# EAGLE library part LCMXO2-1200 (library ELL-i-DigitalIC)
MachXO2-1200 in csBGA132 or TQFP144 package. Lattice MachXO2-series FPGA in a 132 ball chip size BGA or 144 lead TQFP package. Datasheet <http://www.latticesemi.com/~/media/Documents/DataSheets/MachXO23/MachXO2FamilyDataSheet.pdf> (DS1035) .
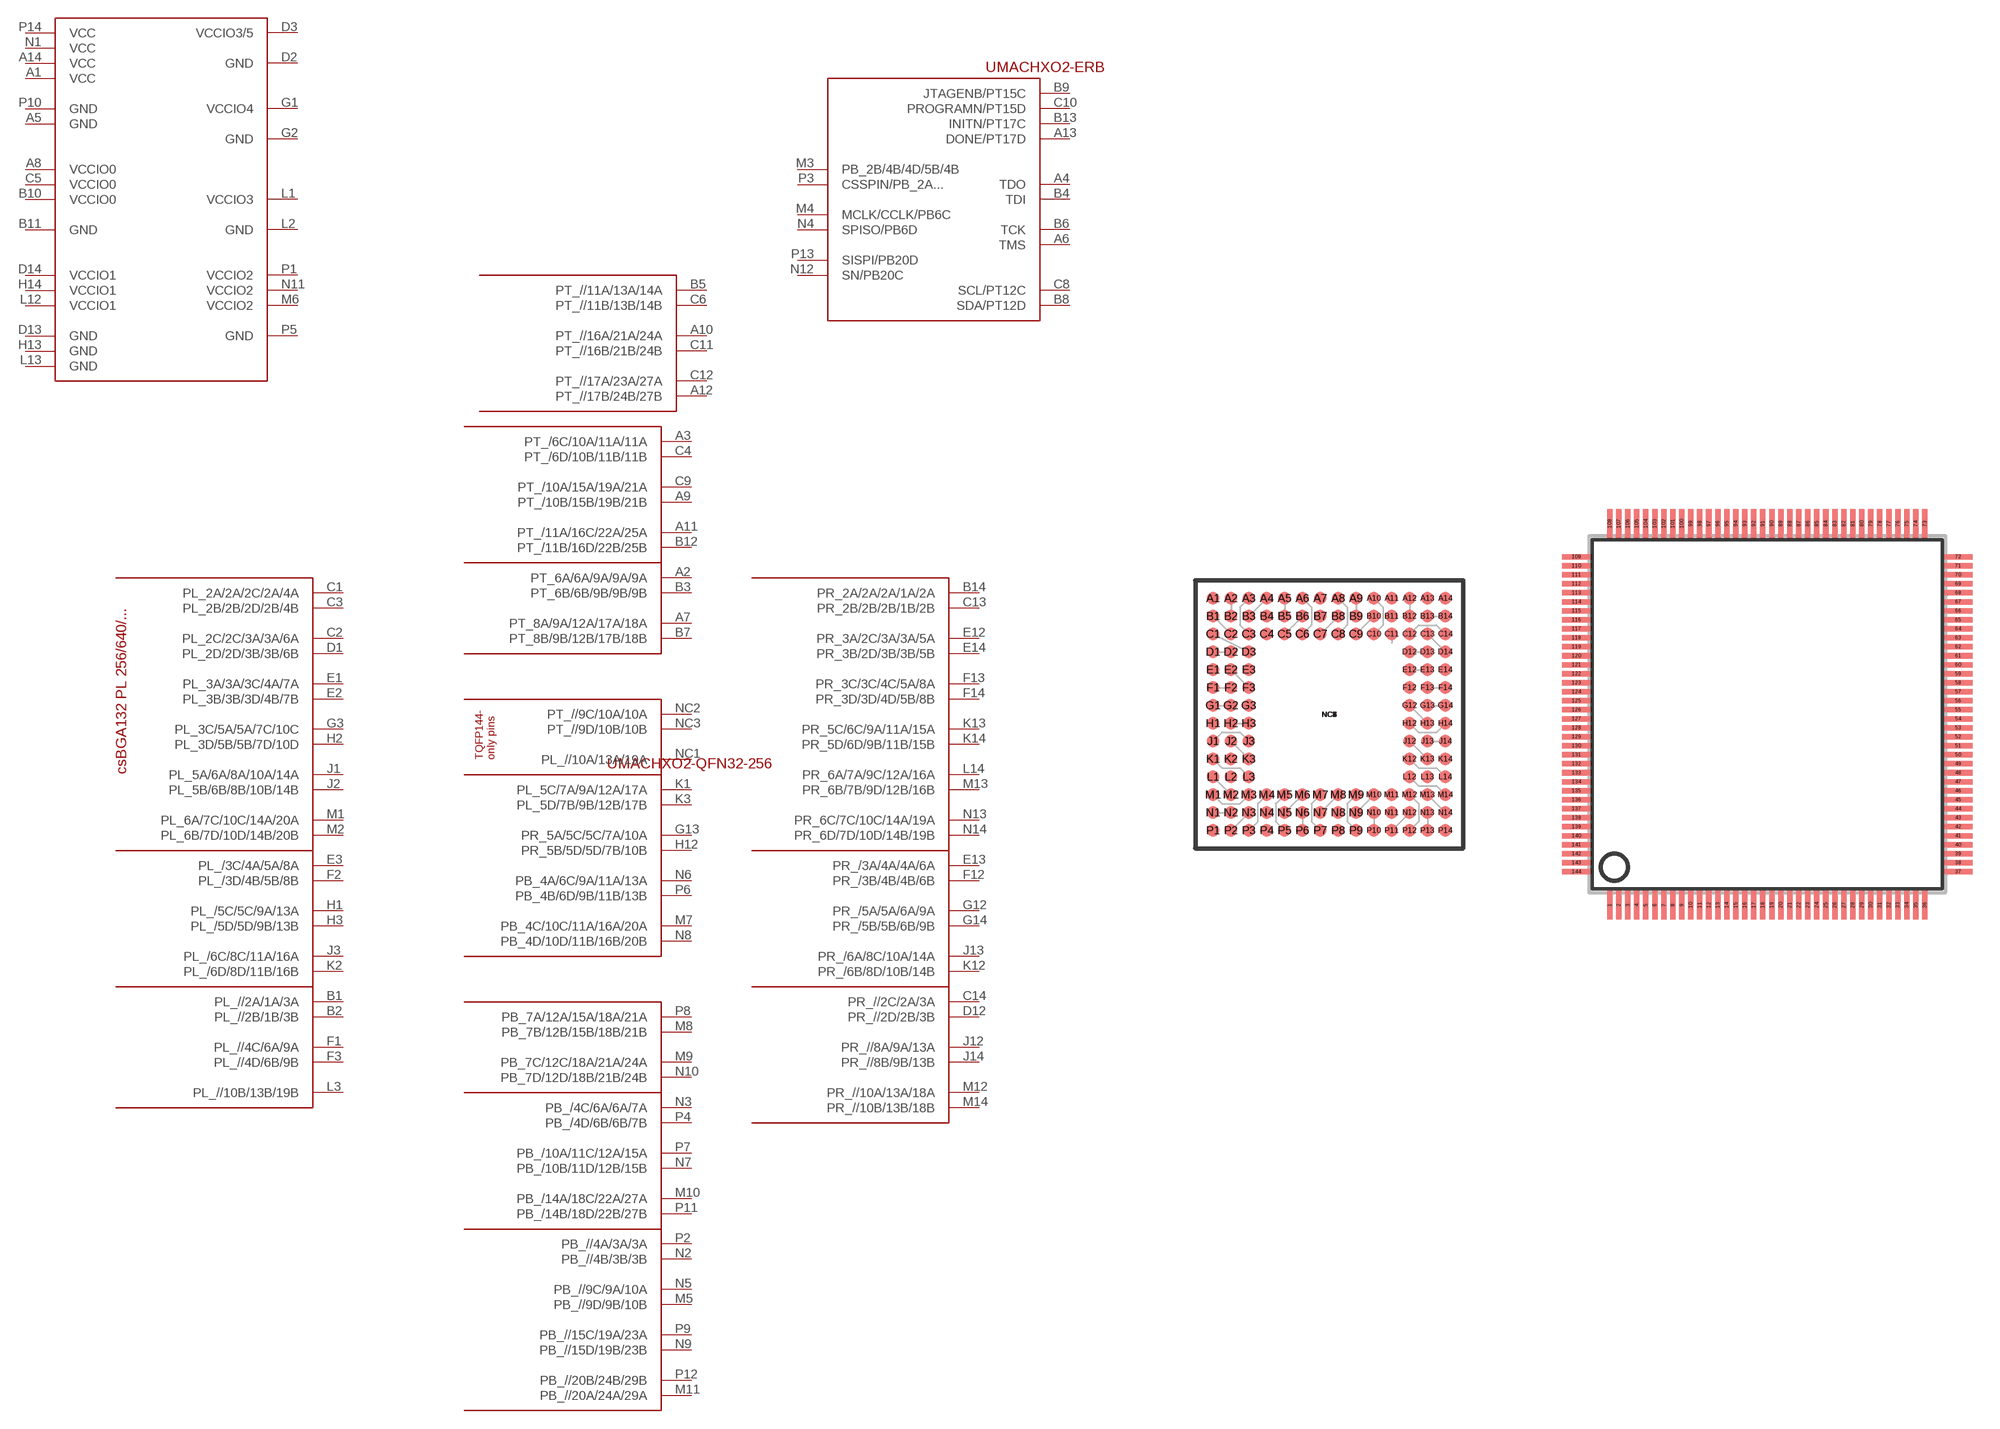
[diagram p6: symbol with the pads of CSBGA132-MACHXO2; footprints CSBGA132-MACHXO2, TQFP144]

Designator prefix U; gates MACHXO2-CSBGA132-PWR=MACHXO2-CSBGA132-PWR MACHXO2-ERB=MACHXO2-ERB MACHXO2-QFN32-256=MACHXO2-QFN32-256 MACHXO2-CSBGA132-256-TOP=MACHXO2-CSBGA132-256-TOP MACHXO2-CSBGA132-256-LEFT=MACHXO2-CSBGA132-256-LEFT MACHXO2-CSBGA132-256-RIGHT=MACHXO2-CSBGA132-256-RIGHT MACHXO2-CSBGA132-256-BOTTOM=MACHXO2-CSBGA132-256-BOTTOM MACHXO2-CSBGA132-640-TOP=MACHXO2-CSBGA132-640-TOP MACHXO2-CSBGA132-640-LEFT=MACHXO2-CSBGA132-640-LEFT MACHXO2-CSBGA132-640-RIGHT=MACHXO2-CSBGA132-640-RIGHT MACHXO2-CSBGA132-640-BOTTOM=MACHXO2-CSBGA132-640-BOTTOM MACHXO2-CSBGA132-1200-TOP=MACHXO2-CSBGA132-1200-TOP MACHXO2-CSBGA132-1200-LEFT=MACHXO2-CSBGA132-1200-LEFT MACHXO2-CSBGA132-1200-RIGHT=MACHXO2-CSBGA132-1200-RIGHT MACHXO2-CSBGA132-1200-BOTTOM=MACHXO2-CSBGA132-1200-BOTTOM MACHXO2-TQFP144=MACHXO2-TQFP144-1200

## LCMXO2-1200HC-4MG132, LCMXO2-1200HC-5MG132, LCMXO2-1200HC-6MG132, LCMXO2-1200HE-4MG132, LCMXO2-1200HE-5MG132, LCMXO2-1200HE-6MG132, LCMXO2-1200ZE-1MG132, LCMXO2-1200ZE-2MG132, LCMXO2-1200ZE-3MG132  [CSBGA132-MACHXO2]
A1  MACHXO2-CSBGA132-PWR:VCC
A2  MACHXO2-CSBGA132-256-TOP:PT_6A/6A/9A/9A/9A
A3  MACHXO2-CSBGA132-640-TOP:PT_/6C/10A/11A/11A
A4  MACHXO2-ERB:TDO
A5  MACHXO2-CSBGA132-PWR:GND
A6  MACHXO2-ERB:TMS
A7  MACHXO2-CSBGA132-256-TOP:PT_8A/9A/12A/17A/18A
A8  MACHXO2-CSBGA132-PWR:VCCIO0
A9  MACHXO2-CSBGA132-640-TOP:PT_/10B/15B/19B/21B
A10  MACHXO2-CSBGA132-1200-TOP:PT_//16A/21A/24A
A11  MACHXO2-CSBGA132-640-TOP:PT_/11A/16C/22A/25A
A12  MACHXO2-CSBGA132-1200-TOP:PT_//17B/24B/27B
A13  MACHXO2-ERB:DONE/PT17D
A14  MACHXO2-CSBGA132-PWR:VCC
B1  MACHXO2-CSBGA132-1200-LEFT:PL_//2A/1A/3A
B2  MACHXO2-CSBGA132-1200-LEFT:PL_//2B/1B/3B
B3  MACHXO2-CSBGA132-256-TOP:PT_6B/6B/9B/9B/9B
B4  MACHXO2-ERB:TDI
B5  MACHXO2-CSBGA132-1200-TOP:PT_//11A/13A/14A
B6  MACHXO2-ERB:TCK
B7  MACHXO2-CSBGA132-256-TOP:PT_8B/9B/12B/17B/18B
B8  MACHXO2-ERB:SDA/PT12D
B9  MACHXO2-ERB:JTAGENB/PT15C
B10  MACHXO2-CSBGA132-PWR:VCCIO0
B11  MACHXO2-CSBGA132-PWR:GND
B12  MACHXO2-CSBGA132-640-TOP:PT_/11B/16D/22B/25B
B13  MACHXO2-ERB:INITN/PT17C
B14  MACHXO2-CSBGA132-256-RIGHT:PR_2A/2A/2A/1A/2A
C1  MACHXO2-CSBGA132-256-LEFT:PL_2A/2A/2C/2A/4A
C2  MACHXO2-CSBGA132-256-LEFT:PL_2C/2C/3A/3A/6A
C3  MACHXO2-CSBGA132-256-LEFT:PL_2B/2B/2D/2B/4B
C4  MACHXO2-CSBGA132-640-TOP:PT_/6D/10B/11B/11B
C5  MACHXO2-CSBGA132-PWR:VCCIO0
C6  MACHXO2-CSBGA132-1200-TOP:PT_//11B/13B/14B
C8  MACHXO2-ERB:SCL/PT12C
C9  MACHXO2-CSBGA132-640-TOP:PT_/10A/15A/19A/21A
C10  MACHXO2-ERB:PROGRAMN/PT15D
C11  MACHXO2-CSBGA132-1200-TOP:PT_//16B/21B/24B
C12  MACHXO2-CSBGA132-1200-TOP:PT_//17A/23A/27A
C13  MACHXO2-CSBGA132-256-RIGHT:PR_2B/2B/2B/1B/2B
C14  MACHXO2-CSBGA132-1200-RIGHT:PR_//2C/2A/3A
D1  MACHXO2-CSBGA132-256-LEFT:PL_2D/2D/3B/3B/6B
D2  MACHXO2-CSBGA132-PWR:GND
D3  MACHXO2-CSBGA132-PWR:VCCIO3/5
D12  MACHXO2-CSBGA132-1200-RIGHT:PR_//2D/2B/3B
D13  MACHXO2-CSBGA132-PWR:GND
D14  MACHXO2-CSBGA132-PWR:VCCIO1
E1  MACHXO2-CSBGA132-256-LEFT:PL_3A/3A/3C/4A/7A
E2  MACHXO2-CSBGA132-256-LEFT:PL_3B/3B/3D/4B/7B
E3  MACHXO2-CSBGA132-640-LEFT:PL_/3C/4A/5A/8A
E12  MACHXO2-CSBGA132-256-RIGHT:PR_3A/2C/3A/3A/5A
E13  MACHXO2-CSBGA132-640-RIGHT:PR_/3A/4A/4A/6A
E14  MACHXO2-CSBGA132-256-RIGHT:PR_3B/2D/3B/3B/5B
F1  MACHXO2-CSBGA132-1200-LEFT:PL_//4C/6A/9A
F2  MACHXO2-CSBGA132-640-LEFT:PL_/3D/4B/5B/8B
F3  MACHXO2-CSBGA132-1200-LEFT:PL_//4D/6B/9B
F12  MACHXO2-CSBGA132-640-RIGHT:PR_/3B/4B/4B/6B
F13  MACHXO2-CSBGA132-256-RIGHT:PR_3C/3C/4C/5A/8A
F14  MACHXO2-CSBGA132-256-RIGHT:PR_3D/3D/4D/5B/8B
G1  MACHXO2-CSBGA132-PWR:VCCIO4
G2  MACHXO2-CSBGA132-PWR:GND
G3  MACHXO2-CSBGA132-256-LEFT:PL_3C/5A/5A/7C/10C
G12  MACHXO2-CSBGA132-640-RIGHT:PR_/5A/5A/6A/9A
G13  MACHXO2-QFN32-256:PR_5A/5C/5C/7A/10A
G14  MACHXO2-CSBGA132-640-RIGHT:PR_/5B/5B/6B/9B
H1  MACHXO2-CSBGA132-640-LEFT:PL_/5C/5C/9A/13A
H2  MACHXO2-CSBGA132-256-LEFT:PL_3D/5B/5B/7D/10D
H3  MACHXO2-CSBGA132-640-LEFT:PL_/5D/5D/9B/13B
H12  MACHXO2-QFN32-256:PR_5B/5D/5D/7B/10B
H13  MACHXO2-CSBGA132-PWR:GND
H14  MACHXO2-CSBGA132-PWR:VCCIO1
J1  MACHXO2-CSBGA132-256-LEFT:PL_5A/6A/8A/10A/14A
J2  MACHXO2-CSBGA132-256-LEFT:PL_5B/6B/8B/10B/14B
J3  MACHXO2-CSBGA132-640-LEFT:PL_/6C/8C/11A/16A
J12  MACHXO2-CSBGA132-1200-RIGHT:PR_//8A/9A/13A
J13  MACHXO2-CSBGA132-640-RIGHT:PR_/6A/8C/10A/14A
J14  MACHXO2-CSBGA132-1200-RIGHT:PR_//8B/9B/13B
K1  MACHXO2-QFN32-256:PL_5C/7A/9A/12A/17A
K2  MACHXO2-CSBGA132-640-LEFT:PL_/6D/8D/11B/16B
K3  MACHXO2-QFN32-256:PL_5D/7B/9B/12B/17B
K12  MACHXO2-CSBGA132-640-RIGHT:PR_/6B/8D/10B/14B
K13  MACHXO2-CSBGA132-256-RIGHT:PR_5C/6C/9A/11A/15A
K14  MACHXO2-CSBGA132-256-RIGHT:PR_5D/6D/9B/11B/15B
L1  MACHXO2-CSBGA132-PWR:VCCIO3
L2  MACHXO2-CSBGA132-PWR:GND
L3  MACHXO2-CSBGA132-1200-LEFT:PL_//10B/13B/19B
L12  MACHXO2-CSBGA132-PWR:VCCIO1
L13  MACHXO2-CSBGA132-PWR:GND
L14  MACHXO2-CSBGA132-256-RIGHT:PR_6A/7A/9C/12A/16A
M1  MACHXO2-CSBGA132-256-LEFT:PL_6A/7C/10C/14A/20A
M2  MACHXO2-CSBGA132-256-LEFT:PL_6B/7D/10D/14B/20B
M3  MACHXO2-ERB:PB_2B/4B/4D/5B/4B
M4  MACHXO2-ERB:MCLK/CCLK/PB6C
M5  MACHXO2-CSBGA132-1200-BOTTOM:PB_//9D/9B/10B
M6  MACHXO2-CSBGA132-PWR:VCCIO2
M7  MACHXO2-QFN32-256:PB_4C/10C/11A/16A/20A
M8  MACHXO2-CSBGA132-256-BOTTOM:PB_7B/12B/15B/18B/21B
M9  MACHXO2-CSBGA132-256-BOTTOM:PB_7C/12C/18A/21A/24A
M10  MACHXO2-CSBGA132-640-BOTTOM:PB_/14A/18C/22A/27A
M11  MACHXO2-CSBGA132-1200-BOTTOM:PB_//20A/24A/29A
M12  MACHXO2-CSBGA132-1200-RIGHT:PR_//10A/13A/18A
M13  MACHXO2-CSBGA132-256-RIGHT:PR_6B/7B/9D/12B/16B
M14  MACHXO2-CSBGA132-1200-RIGHT:PR_//10B/13B/18B
N1  MACHXO2-CSBGA132-PWR:VCC
N2  MACHXO2-CSBGA132-1200-BOTTOM:PB_//4B/3B/3B
N3  MACHXO2-CSBGA132-640-BOTTOM:PB_/4C/6A/6A/7A
N4  MACHXO2-ERB:SPISO/PB6D
N5  MACHXO2-CSBGA132-1200-BOTTOM:PB_//9C/9A/10A
N6  MACHXO2-QFN32-256:PB_4A/6C/9A/11A/13A
N7  MACHXO2-CSBGA132-640-BOTTOM:PB_/10B/11D/12B/15B
N8  MACHXO2-QFN32-256:PB_4D/10D/11B/16B/20B
N9  MACHXO2-CSBGA132-1200-BOTTOM:PB_//15D/19B/23B
N10  MACHXO2-CSBGA132-256-BOTTOM:PB_7D/12D/18B/21B/24B
N11  MACHXO2-CSBGA132-PWR:VCCIO2
N12  MACHXO2-ERB:SN/PB20C
N13  MACHXO2-CSBGA132-256-RIGHT:PR_6C/7C/10C/14A/19A
N14  MACHXO2-CSBGA132-256-RIGHT:PR_6D/7D/10D/14B/19B
NC1  MACHXO2-TQFP144:PL_//10A/13A/19A
NC2  MACHXO2-TQFP144:PT_//9C/10A/10A
NC3  MACHXO2-TQFP144:PT_//9D/10B/10B
P1  MACHXO2-CSBGA132-PWR:VCCIO2
P2  MACHXO2-CSBGA132-1200-BOTTOM:PB_//4A/3A/3A
P3  MACHXO2-ERB:CSSPIN/PB_2A...
P4  MACHXO2-CSBGA132-640-BOTTOM:PB_/4D/6B/6B/7B
P5  MACHXO2-CSBGA132-PWR:GND
P6  MACHXO2-QFN32-256:PB_4B/6D/9B/11B/13B
P7  MACHXO2-CSBGA132-640-BOTTOM:PB_/10A/11C/12A/15A
P8  MACHXO2-CSBGA132-256-BOTTOM:PB_7A/12A/15A/18A/21A
P9  MACHXO2-CSBGA132-1200-BOTTOM:PB_//15C/19A/23A
P10  MACHXO2-CSBGA132-PWR:GND
P11  MACHXO2-CSBGA132-640-BOTTOM:PB_/14B/18D/22B/27B
P12  MACHXO2-CSBGA132-1200-BOTTOM:PB_//20B/24B/29B
P13  MACHXO2-ERB:SISPI/PB20D
P14  MACHXO2-CSBGA132-PWR:VCC

## LCMXO2-1200TG144  [TQFP144]
1  MACHXO2-CSBGA132-1200-LEFT:PL_//2A/1A/3A
2  MACHXO2-CSBGA132-1200-LEFT:PL_//2B/1B/3B
3  MACHXO2-CSBGA132-256-LEFT:PL_2A/2A/2C/2A/4A
4  MACHXO2-CSBGA132-256-LEFT:PL_2B/2B/2D/2B/4B
5  MACHXO2-CSBGA132-256-LEFT:PL_2C/2C/3A/3A/6A
6  MACHXO2-CSBGA132-256-LEFT:PL_2D/2D/3B/3B/6B
7  MACHXO2-CSBGA132-PWR:VCCIO3/5
8  MACHXO2-CSBGA132-PWR:GND
9  MACHXO2-CSBGA132-256-LEFT:PL_3A/3A/3C/4A/7A
10  MACHXO2-CSBGA132-256-LEFT:PL_3B/3B/3D/4B/7B
11  MACHXO2-CSBGA132-640-LEFT:PL_/3C/4A/5A/8A
12  MACHXO2-CSBGA132-640-LEFT:PL_/3D/4B/5B/8B
13  MACHXO2-CSBGA132-1200-LEFT:PL_//4C/6A/9A
14  MACHXO2-CSBGA132-1200-LEFT:PL_//4D/6B/9B
16  MACHXO2-CSBGA132-PWR:VCCIO4
18  MACHXO2-CSBGA132-PWR:GND
19  MACHXO2-CSBGA132-256-LEFT:PL_3C/5A/5A/7C/10C
20  MACHXO2-CSBGA132-256-LEFT:PL_3D/5B/5B/7D/10D
21  MACHXO2-CSBGA132-640-LEFT:PL_/5C/5C/9A/13A
22  MACHXO2-CSBGA132-640-LEFT:PL_/5D/5D/9B/13B
23  MACHXO2-CSBGA132-256-LEFT:PL_5A/6A/8A/10A/14A
24  MACHXO2-CSBGA132-256-LEFT:PL_5B/6B/8B/10B/14B
25  MACHXO2-CSBGA132-640-LEFT:PL_/6C/8C/11A/16A
26  MACHXO2-CSBGA132-640-LEFT:PL_/6D/8D/11B/16B
27  MACHXO2-QFN32-256:PL_5C/7A/9A/12A/17A
28  MACHXO2-QFN32-256:PL_5D/7B/9B/12B/17B
29  MACHXO2-CSBGA132-PWR:GND
30  MACHXO2-CSBGA132-PWR:VCCIO3
32  MACHXO2-TQFP144:PL_//10A/13A/19A
33  MACHXO2-CSBGA132-1200-LEFT:PL_//10B/13B/19B
34  MACHXO2-CSBGA132-256-LEFT:PL_6A/7C/10C/14A/20A
35  MACHXO2-CSBGA132-256-LEFT:PL_6B/7D/10D/14B/20B
36  MACHXO2-CSBGA132-PWR:VCC
37  MACHXO2-CSBGA132-PWR:VCCIO2
38  MACHXO2-CSBGA132-1200-BOTTOM:PB_//4A/3A/3A
39  MACHXO2-CSBGA132-1200-BOTTOM:PB_//4B/3B/3B
40  MACHXO2-ERB:CSSPIN/PB_2A...
41  MACHXO2-ERB:PB_2B/4B/4D/5B/4B
42  MACHXO2-CSBGA132-640-BOTTOM:PB_/4C/6A/6A/7A
43  MACHXO2-CSBGA132-640-BOTTOM:PB_/4D/6B/6B/7B
44  MACHXO2-ERB:MCLK/CCLK/PB6C
45  MACHXO2-ERB:SPISO/PB6D
46  MACHXO2-CSBGA132-PWR:GND
47  MACHXO2-CSBGA132-1200-BOTTOM:PB_//9C/9A/10A
48  MACHXO2-CSBGA132-1200-BOTTOM:PB_//9D/9B/10B
49  MACHXO2-QFN32-256:PB_4A/6C/9A/11A/13A
50  MACHXO2-QFN32-256:PB_4B/6D/9B/11B/13B
51  MACHXO2-CSBGA132-PWR:VCCIO2
52  MACHXO2-CSBGA132-640-BOTTOM:PB_/10A/11C/12A/15A
53  MACHXO2-CSBGA132-PWR:GND
54  MACHXO2-CSBGA132-640-BOTTOM:PB_/10B/11D/12B/15B
55  MACHXO2-QFN32-256:PB_4C/10C/11A/16A/20A
56  MACHXO2-QFN32-256:PB_4D/10D/11B/16B/20B
57  MACHXO2-CSBGA132-256-BOTTOM:PB_7A/12A/15A/18A/21A
58  MACHXO2-CSBGA132-256-BOTTOM:PB_7B/12B/15B/18B/21B
59  MACHXO2-CSBGA132-1200-BOTTOM:PB_//15C/19A/23A
60  MACHXO2-CSBGA132-1200-BOTTOM:PB_//15D/19B/23B
61  MACHXO2-CSBGA132-256-BOTTOM:PB_7C/12C/18A/21A/24A
62  MACHXO2-CSBGA132-256-BOTTOM:PB_7D/12D/18B/21B/24B
64  MACHXO2-CSBGA132-PWR:GND
65  MACHXO2-CSBGA132-640-BOTTOM:PB_/14A/18C/22A/27A
66  MACHXO2-CSBGA132-PWR:VCCIO2
67  MACHXO2-CSBGA132-640-BOTTOM:PB_/14B/18D/22B/27B
68  MACHXO2-CSBGA132-1200-BOTTOM:PB_//20A/24A/29A
69  MACHXO2-CSBGA132-1200-BOTTOM:PB_//20B/24B/29B
70  MACHXO2-ERB:SN/PB20C
71  MACHXO2-ERB:SISPI/PB20D
72  MACHXO2-CSBGA132-PWR:VCC
73  MACHXO2-CSBGA132-256-RIGHT:PR_6D/7D/10D/14B/19B
74  MACHXO2-CSBGA132-256-RIGHT:PR_6C/7C/10C/14A/19A
75  MACHXO2-CSBGA132-1200-RIGHT:PR_//10B/13B/18B
76  MACHXO2-CSBGA132-1200-RIGHT:PR_//10A/13A/18A
77  MACHXO2-CSBGA132-256-RIGHT:PR_6B/7B/9D/12B/16B
78  MACHXO2-CSBGA132-256-RIGHT:PR_6A/7A/9C/12A/16A
79  MACHXO2-CSBGA132-PWR:VCCIO1
80  MACHXO2-CSBGA132-PWR:GND
81  MACHXO2-CSBGA132-256-RIGHT:PR_5D/6D/9B/11B/15B
82  MACHXO2-CSBGA132-256-RIGHT:PR_5C/6C/9A/11A/15A
83  MACHXO2-CSBGA132-640-RIGHT:PR_/6B/8D/10B/14B
84  MACHXO2-CSBGA132-640-RIGHT:PR_/6A/8C/10A/14A
85  MACHXO2-CSBGA132-1200-RIGHT:PR_//8B/9B/13B
86  MACHXO2-CSBGA132-1200-RIGHT:PR_//8A/9A/13A
88  MACHXO2-CSBGA132-PWR:VCCIO1
90  MACHXO2-CSBGA132-PWR:GND
91  MACHXO2-QFN32-256:PR_5B/5D/5D/7B/10B
92  MACHXO2-QFN32-256:PR_5A/5C/5C/7A/10A
93  MACHXO2-CSBGA132-640-RIGHT:PR_/5B/5B/6B/9B
94  MACHXO2-CSBGA132-640-RIGHT:PR_/5A/5A/6A/9A
95  MACHXO2-CSBGA132-256-RIGHT:PR_3D/3D/4D/5B/8B
96  MACHXO2-CSBGA132-256-RIGHT:PR_3C/3C/4C/5A/8A
97  MACHXO2-CSBGA132-640-RIGHT:PR_/3B/4B/4B/6B
98  MACHXO2-CSBGA132-640-RIGHT:PR_/3A/4A/4A/6A
99  MACHXO2-CSBGA132-256-RIGHT:PR_3B/2D/3B/3B/5B
100  MACHXO2-CSBGA132-256-RIGHT:PR_3A/2C/3A/3A/5A
101  MACHXO2-CSBGA132-PWR:GND
102  MACHXO2-CSBGA132-PWR:VCCIO1
104  MACHXO2-CSBGA132-1200-RIGHT:PR_//2D/2B/3B
105  MACHXO2-CSBGA132-1200-RIGHT:PR_//2C/2A/3A
106  MACHXO2-CSBGA132-256-RIGHT:PR_2B/2B/2B/1B/2B
107  MACHXO2-CSBGA132-256-RIGHT:PR_2A/2A/2A/1A/2A
108  MACHXO2-CSBGA132-PWR:VCC
109  MACHXO2-ERB:DONE/PT17D
110  MACHXO2-ERB:INITN/PT17C
111  MACHXO2-CSBGA132-1200-TOP:PT_//17B/24B/27B
112  MACHXO2-CSBGA132-1200-TOP:PT_//17A/23A/27A
113  MACHXO2-CSBGA132-640-TOP:PT_/11B/16D/22B/25B
114  MACHXO2-CSBGA132-640-TOP:PT_/11A/16C/22A/25A
115  MACHXO2-CSBGA132-1200-TOP:PT_//16B/21B/24B
116  MACHXO2-CSBGA132-PWR:GND
117  MACHXO2-CSBGA132-1200-TOP:PT_//16A/21A/24A
118  MACHXO2-CSBGA132-PWR:VCCIO0
119  MACHXO2-ERB:PROGRAMN/PT15D
120  MACHXO2-ERB:JTAGENB/PT15C
121  MACHXO2-CSBGA132-640-TOP:PT_/10B/15B/19B/21B
122  MACHXO2-CSBGA132-640-TOP:PT_/10A/15A/19A/21A
123  MACHXO2-CSBGA132-PWR:VCCIO0
124  MACHXO2-CSBGA132-PWR:GND
125  MACHXO2-ERB:SDA/PT12D
126  MACHXO2-ERB:SCL/PT12C
127  MACHXO2-CSBGA132-256-TOP:PT_8B/9B/12B/17B/18B
128  MACHXO2-CSBGA132-256-TOP:PT_8A/9A/12A/17A/18A
130  MACHXO2-ERB:TMS
131  MACHXO2-ERB:TCK
132  MACHXO2-CSBGA132-1200-TOP:PT_//11B/13B/14B
133  MACHXO2-CSBGA132-1200-TOP:PT_//11A/13A/14A
134  MACHXO2-CSBGA132-PWR:GND
135  MACHXO2-CSBGA132-PWR:VCCIO0
136  MACHXO2-ERB:TDI
137  MACHXO2-ERB:TDO
138  MACHXO2-CSBGA132-640-TOP:PT_/6D/10B/11B/11B
139  MACHXO2-CSBGA132-640-TOP:PT_/6C/10A/11A/11A
140  MACHXO2-TQFP144:PT_//9D/10B/10B
141  MACHXO2-TQFP144:PT_//9C/10A/10A
142  MACHXO2-CSBGA132-256-TOP:PT_6B/6B/9B/9B/9B
143  MACHXO2-CSBGA132-256-TOP:PT_6A/6A/9A/9A/9A
144  MACHXO2-CSBGA132-PWR:VCC

## Footprint CSBGA132-MACHXO2 (pad centres in mm)
132 balls chip sized Ball Grid Array (BGA) for Lattice MachXO2 series FPGAs 8x8 mm, 0.5 mm pitch. Note that this package has extra non-connected invisible 0.0x0.0 sized pads, in the middle, named NC1-NC7. That facilitates allowing csBGA 132 and TQFP 144 packages to be used with the same device. Note that this package extra annotation in the Docu layer, showing which balls form together pin pairs in the FPGA pin assignment. Lattice Package Diagrams <http://www.latticesemi.com/~/media/Documents/DataSheets/PackageDiagrams.pdf>
smd 0.35 x 0.35: A1 -3.25,3.25; A2 -2.75,3.25; A3 -2.25,3.25; A4 -1.75,3.25; A5 -1.25,3.25; A6 -0.75,3.25; A7 -0.25,3.25; A8 0.25,3.25; A9 0.75,3.25; A10 1.25,3.25; A11 1.75,3.25; A12 2.25,3.25; A13 2.75,3.25; A14 3.25,3.25; B1 -3.25,2.75; B2 -2.75,2.75; B3 -2.25,2.75; B4 -1.75,2.75; B5 -1.25,2.75; B6 -0.75,2.75; B7 -0.25,2.75; B8 0.25,2.75; B9 0.75,2.75; B10 1.25,2.75; B11 1.75,2.75; B12 2.25,2.75; B13 2.75,2.75; B14 3.25,2.75; C1 -3.25,2.25; C2 -2.75,2.25; C3 -2.25,2.25; C4 -1.75,2.25; C5 -1.25,2.25; C6 -0.75,2.25; C7 -0.25,2.25; C8 0.25,2.25; C9 0.75,2.25; C10 1.25,2.25; C11 1.75,2.25; C12 2.25,2.25; C13 2.75,2.25; C14 3.25,2.25; D1 -3.25,1.75; D2 -2.75,1.75; D3 -2.25,1.75; D12 2.25,1.75; D13 2.75,1.75; D14 3.25,1.75; E1 -3.25,1.25; E2 -2.75,1.25; E3 -2.25,1.25; E12 2.25,1.25; E13 2.75,1.25; E14 3.25,1.25; F1 -3.25,0.75; F2 -2.75,0.75; F3 -2.25,0.75; F12 2.25,0.75; F13 2.75,0.75; F14 3.25,0.75; G1 -3.25,0.25; G2 -2.75,0.25; G3 -2.25,0.25; G12 2.25,0.25; G13 2.75,0.25; G14 3.25,0.25; H1 -3.25,-0.25; H2 -2.75,-0.25; H3 -2.25,-0.25; H12 2.25,-0.25; H13 2.75,-0.25; H14 3.25,-0.25; J1 -3.25,-0.75; J2 -2.75,-0.75; J3 -2.25,-0.75; J12 2.25,-0.75; J13 2.75,-0.75; J14 3.25,-0.75; K1 -3.25,-1.25; K2 -2.75,-1.25; K3 -2.25,-1.25; K12 2.25,-1.25; K13 2.75,-1.25; K14 3.25,-1.25; L1 -3.25,-1.75; L2 -2.75,-1.75; L3 -2.25,-1.75; L12 2.25,-1.75; L13 2.75,-1.75; L14 3.25,-1.75; M1 -3.25,-2.25; M2 -2.75,-2.25; M3 -2.25,-2.25; M4 -1.75,-2.25; M5 -1.25,-2.25; M6 -0.75,-2.25; M7 -0.25,-2.25; M8 0.25,-2.25; M9 0.75,-2.25; M10 1.25,-2.25; M11 1.75,-2.25; M12 2.25,-2.25; M13 2.75,-2.25; M14 3.25,-2.25; N1 -3.25,-2.75; N2 -2.75,-2.75; N3 -2.25,-2.75; N4 -1.75,-2.75; N5 -1.25,-2.75; N6 -0.75,-2.75; N7 -0.25,-2.75; N8 0.25,-2.75; N9 0.75,-2.75; N10 1.25,-2.75; N11 1.75,-2.75; N12 2.25,-2.75; N13 2.75,-2.75; N14 3.25,-2.75; P1 -3.25,-3.25; P2 -2.75,-3.25; P3 -2.25,-3.25; P4 -1.75,-3.25; P5 -1.25,-3.25; P6 -0.75,-3.25; P7 -0.25,-3.25; P8 0.25,-3.25; P9 0.75,-3.25; P10 1.25,-3.25; P11 1.75,-3.25; P12 2.25,-3.25; P13 2.75,-3.25; P14 3.25,-3.25
smd 0 x 0: NC1 0,0; NC2 0,0; NC3 0,0; NC4 0,0; NC5 0,0; NC6 0,0; NC7 0,0

## Footprint TQFP144 (pad centres in mm)
144 leads Thin Profile Quad Flat Package (TQFP) 20x20 mm, 0.5 mm pitch, 1 mm height. Wikipedia article on QFPs <https://en.wikipedia.org/wiki/TQFP>
smd 0.3 x 1.6: 1 -8.75,-10.6; 2 -8.25,-10.6; 3 -7.75,-10.6; 4 -7.25,-10.6; 5 -6.75,-10.6; 6 -6.25,-10.6; 7 -5.75,-10.6; 8 -5.25,-10.6; 9 -4.75,-10.6; 10 -4.25,-10.6; 11 -3.75,-10.6; 12 -3.25,-10.6; 13 -2.75,-10.6; 14 -2.25,-10.6; 15 -1.75,-10.6; 16 -1.25,-10.6; 17 -0.75,-10.6; 18 -0.25,-10.6; 19 0.25,-10.6; 20 0.75,-10.6; 21 1.25,-10.6; 22 1.75,-10.6; 23 2.25,-10.6; 24 2.75,-10.6; 25 3.25,-10.6; 26 3.75,-10.6; 27 4.25,-10.6; 28 4.75,-10.6; 29 5.25,-10.6; 30 5.75,-10.6; 31 6.25,-10.6; 32 6.75,-10.6; 33 7.25,-10.6; 34 7.75,-10.6; 35 8.25,-10.6; 36 8.75,-10.6; 73 8.75,10.6; 74 8.25,10.6; 75 7.75,10.6; 76 7.25,10.6; 77 6.75,10.6; 78 6.25,10.6; 79 5.75,10.6; 80 5.25,10.6; 81 4.75,10.6; 82 4.25,10.6; 83 3.75,10.6; 84 3.25,10.6; 85 2.75,10.6; 86 2.25,10.6; 87 1.75,10.6; 88 1.25,10.6; 89 0.75,10.6; 90 0.25,10.6; 91 -0.25,10.6; 92 -0.75,10.6; 93 -1.25,10.6; 94 -1.75,10.6; 95 -2.25,10.6; 96 -2.75,10.6; 97 -3.25,10.6; 98 -3.75,10.6; 99 -4.25,10.6; 100 -4.75,10.6; 101 -5.25,10.6; 102 -5.75,10.6; 103 -6.25,10.6; 104 -6.75,10.6; 105 -7.25,10.6; 106 -7.75,10.6; 107 -8.25,10.6; 108 -8.75,10.6
smd 1.6 x 0.3: 37 10.6,-8.75; 38 10.6,-8.25; 39 10.6,-7.75; 40 10.6,-7.25; 41 10.6,-6.75; 42 10.6,-6.25; 43 10.6,-5.75; 44 10.6,-5.25; 45 10.6,-4.75; 46 10.6,-4.25; 47 10.6,-3.75; 48 10.6,-3.25; 49 10.6,-2.75; 50 10.6,-2.25; 51 10.6,-1.75; 52 10.6,-1.25; 53 10.6,-0.75; 54 10.6,-0.25; 55 10.6,0.25; 56 10.6,0.75; 57 10.6,1.25; 58 10.6,1.75; 59 10.6,2.25; 60 10.6,2.75; 61 10.6,3.25; 62 10.6,3.75; 63 10.6,4.25; 64 10.6,4.75; 65 10.6,5.25; 66 10.6,5.75; 67 10.6,6.25; 68 10.6,6.75; 69 10.6,7.25; 70 10.6,7.75; 71 10.6,8.25; 72 10.6,8.75; 109 -10.6,8.75; 110 -10.6,8.25; 111 -10.6,7.75; 112 -10.6,7.25; 113 -10.6,6.75; 114 -10.6,6.25; 115 -10.6,5.75; 116 -10.6,5.25; 117 -10.6,4.75; 118 -10.6,4.25; 119 -10.6,3.75; 120 -10.6,3.25; 121 -10.6,2.75; 122 -10.6,2.25; 123 -10.6,1.75; 124 -10.6,1.25; 125 -10.6,0.75; 126 -10.6,0.25; 127 -10.6,-0.25; 128 -10.6,-0.75; 129 -10.6,-1.25; 130 -10.6,-1.75; 131 -10.6,-2.25; 132 -10.6,-2.75; 133 -10.6,-3.25; 134 -10.6,-3.75; 135 -10.6,-4.25; 136 -10.6,-4.75; 137 -10.6,-5.25; 138 -10.6,-5.75; 139 -10.6,-6.25; 140 -10.6,-6.75; 141 -10.6,-7.25; 142 -10.6,-7.75; 143 -10.6,-8.25; 144 -10.6,-8.75